# Altium footprint library CLAP.PcbLib: 265 footprints (part 8 of 17)
Each footprint in its own frame and in the unit in brackets; x right, y up, seen from the top. Pads: shape width x height; smd on the part's side, far side on the other; paste and mask are expansions set on the pad; w line width, h text height; cw(c..) or ccw(c..) is an arc to the next point about the centre after c.
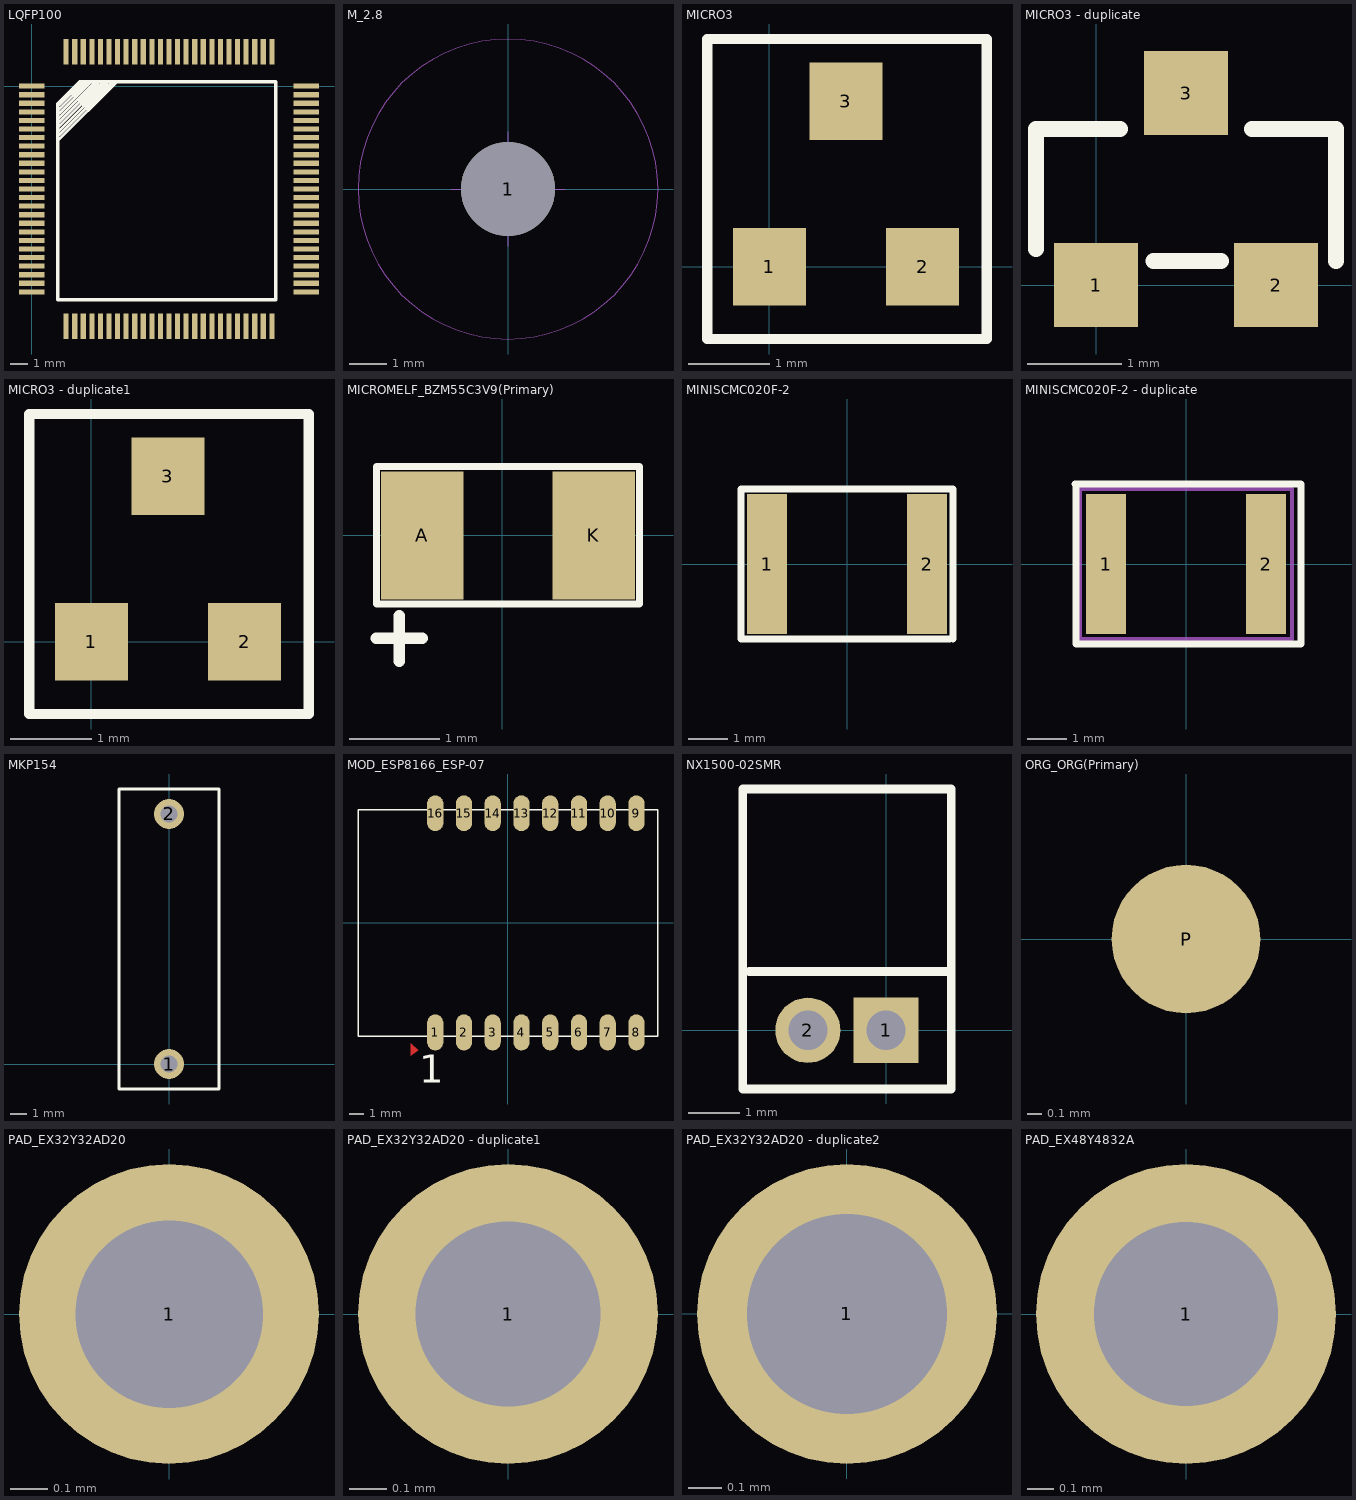
[diagram p7: the footprints below, top view; thin cyan lines are the x and y axes]

## LQFP100 [mm]
pads (100):
  rect 1.5x0.3 smd: 1(0,0) 2(0,-0.5) 3(0,-1) 4(0,-1.5) 5(0,-2) 6(0,-2.5) 7(0,-3) 8(0,-3.5) 9(0,-4) 10(0,-4.5) 11(0,-5) 12(0,-5.5) 13(0,-6) 14(0,-6.5) 15(0,-7) 16(0,-7.5) 17(0,-8) 18(0,-8.5) 19(0,-9) 20(0,-9.5) 21(0,-10) 22(0,-10.5) 23(0,-11) 24(0,-11.5) 25(0,-12) 51(16,-12) 52(16,-11.5) 53(16,-11) 54(16,-10.5) 55(16,-10) 56(16,-9.5) 57(16,-9) 58(16,-8.5) 59(16,-8) 60(16,-7.5) 61(16,-7) 62(16,-6.5) 63(16,-6) 64(16,-5.5) 65(16,-5) 66(16,-4.5) 67(16,-4) 68(16,-3.5) 69(16,-3) 70(16,-2.5) 71(16,-2) 72(16,-1.5) 73(16,-1) 74(16,-0.5) 75(16,0)
  rect 0.3x1.5 smd: 26(2,-14) 27(2.5,-14) 28(3,-14) 29(3.5,-14) 30(4,-14) 31(4.5,-14) 32(5,-14) 33(5.5,-14) 34(6,-14) 35(6.5,-14) 36(7,-14) 37(7.5,-14) 38(8,-14) 39(8.5,-14) 40(9,-14) 41(9.5,-14) 42(10,-14) 43(10.5,-14) 44(11,-14) 45(11.5,-14) 46(12,-14) 47(12.5,-14) 48(13,-14) 49(13.5,-14) 50(14,-14) 76(14,2) 77(13.5,2) 78(13,2) 79(12.5,2) 80(12,2) 81(11.5,2) 82(11,2) 83(10.5,2) 84(10,2) 85(9.5,2) 86(9,2) 87(8.5,2) 88(8,2) 89(7.5,2) 90(7,2) 91(6.5,2) 92(6,2) 93(5.5,2) 94(5,2) 95(4.5,2) 96(4,2) 97(3.5,2) 98(3,2) 99(2.5,2) 100(2,2)
Top Overlay:
  lines w0.17: 1.62,-3.08 4.87,0.17 ; 1.62,-2.83 4.62,0.17 ; 1.62,-2.58 4.37,0.17 ; 1.62,-2.33 4.12,0.17 ; 1.62,-2.08 3.87,0.17 ; 1.62,-1.83 3.62,0.17 ; 1.62,-1.58 3.37,0.17 ; 1.62,-1.33 3.12,0.17 ; 1.62,-1.08 2.87,0.17
  lines w0.2: 1.52,-12.45 1.52,-1.02 2.79,0.25 14.22,0.25 14.22,-12.45 1.52,-12.45
3D body "LQFP-100_14x14mm_P0.5mm.step": height 1.5, standoff 0, extent 0,-14 16,2

## M_2.8 [mm]
pads (1):
  round 2.5 hole 2.5 unplated: 1(0,0)
Mechanical 1:
  circle w0.01: c0,0 r4
  lines w0.01: -1.524,0 1.524,0 ; 0,-1.524 0,1.524

## MICRO3 [mm]
pads (3):
  rect 0.9x0.95 smd: 1(0,0) 2(1.88,0) 3(0.94,2.032)
Top Overlay:
  lines w0.127: -0.762,-0.889 2.667,-0.889 2.667,2.794 -0.762,2.794 -0.762,-0.889
3D body "SOT95P229X119-3N.stp": height 1.19, standoff 0, extent -0.55,-0.3 2.45,2.2

## MICRO3 - duplicate [mil]
pads (3):
  rect 35x35 smd: 1(0,0) 2(75,0) 3(37.5,80)
Top Overlay:
  lines w6.69: -25,15 -25,65 10,65 ; 24,10 52,10 ; 65,65 100,65 100,10
3D body "SOT-23.step": height 47.24, standoff 0, extent -21.66,-9.83 96.45,88.59

## MICRO3 - duplicate1 [mm]
pads (3):
  rect 0.9x0.95 smd: 1(0,0) 2(1.88,0) 3(0.94,2.032)
Top Overlay:
  lines w0.127: -0.762,-0.889 2.667,-0.889 2.667,2.794 -0.762,2.794 -0.762,-0.889
3D body "SOT-23.step": height 1.2, standoff 0, extent -0.55,-0.25 2.45,2.25

## MICROMELF_BZM55C3V9(Primary) [mil]
pads (2):
  rect 36x56 smd: A(-35,0) K(40,0)
Top Overlay:
  lines w3: -55,-30 60,-30 60,30 -55,30 -55,-30
  lines w5: -55,-45 -35,-45 ; -45,-55 -45,-35
3D body "D_MicroMELF.step": height 43.14, standoff 0, extent -43.3,-21.61 43.31,21.61

## MINISCMC020F-2 [mil]
pads (2):
  rect 40x140 smd: 1(-80,0) 2(80,0)
Top Overlay:
  lines w7: -106,74 -106,-75 103,-75 ; -106,75 106,75 ; 106,-75 106,74
3D body "R_1812_4532Metric.step": height 23.62, standoff 0, extent -88.58,-62.99 88.58,62.99

## MINISCMC020F-2 - duplicate [mil]
pads (2):
  rect 40x140 smd: 1(-80,0) 2(80,0)
Top Overlay:
  lines w6.69: -111,80 115,80 115,-80 -110,-80 -110,80
Mechanical 1:
  lines w3.94: -106,74 -106,-75 105,-75 ; -106,75 106,75 ; 106,-75 106,74
3D body "R_1812_4532Metric.step": height 23.62, standoff 0, extent -88.58,-62.99 88.59,63

## MKP154 [mm]
pads (2):
  round 1.8 hole 1: 1(0,0) 2(0,15)
Top Overlay:
  lines w0.2: -3,-1.5 -3,16.5 3,16.5 3,-1.5 -3,-1.5

## MOD_ESP8166_ESP-07 [mil]
pads (16):
  oval 45x100 smd: 1(-202,-305) 2(-122,-305) 3(-42,-305) 4(38,-305) 5(118,-305) 6(198,-305) 7(278,-305) 8(358,-305) 9(358,305) 10(278,305) 11(198,305) 12(118,305) 13(38,305) 14(-42,305) 15(-122,305) 16(-202,305)
Top Layer:
  region: -270,-335 -270,-370 -249,-354
Top Overlay:
  lines w4: -417,-315 -417,315 418,315 418,-315 -417,-315
  text "1" at -246.7,-445 h78.12
3D body "ESP07-1.step": height 137.87, standoff -0.39, extent -447.96,-322.08 418.19,307.84

## NX1500-02SMR [mil]
pads (2):
  rect 50x50 hole 30: 1(0,0)
  round 50 hole 30: 2(-60,0)
Top Overlay:
  lines w6.69: -105,45 50,45 ; -110,-45 45,-45 50,-45 50,185 -110,185 -110,-45

## ORG_ORG(Primary) [mm]
pads (1):
  round 1 smd paste-25.4 mask-25.4: P(0,0)
Top Paste:
  region: 0,0.51 -0.195,0.471 -0.36,0.36 -0.471,0.195 -0.51,0 -0.471,-0.195 -0.36,-0.36 -0.195,-0.471 0,-0.51 0.195,-0.471 0.36,-0.36 0.471,-0.195 0.51,0 0.471,0.195 0.36,0.36 0.195,0.471
Top Solder:
  region: 0,1.009 -0.261,0.974 -0.504,0.873 -0.713,0.713 -0.873,0.504 -0.974,0.261 -1.009,0 -0.974,-0.261 -0.873,-0.504 -0.713,-0.713 -0.504,-0.873 -0.261,-0.974 0,-1.009 0.261,-0.974 0.504,-0.873 0.713,-0.713 0.873,-0.504 0.974,-0.261 1.009,0 0.974,0.261 0.873,0.504 0.713,0.713 0.504,0.873 0.261,0.974

## PAD_EX32Y32AD20 [mil]
pads (1):
  round 32 hole 20: 1(0,0)

## PAD_EX32Y32AD20 - duplicate1 [mil]
pads (1):
  round 32 hole 19.68: 1(0,0)

## PAD_EX32Y32AD20 - duplicate2 [mm]
pads (1):
  round 0.9 hole 0.6: 1(0,0)

## PAD_EX48Y4832A [mil]
pads (1):
  round 45 hole 27.56: 1(0,0)